# EAGLE library part 615008160721 (library WR-MJ)
WR-MJ Gigabit Ethernet Modular Jacks – THT Characteristics Shieldingless and Shielded with EMI-Spring option Vertical and Horizontal orientations Tray Packaging Properties PoE++ Compatible up to 100W (IEEE 802.3bt) UL and cULus-Certified UL94-V0 reflow-compatible insulator material Ethernet Category 5e to 6A Applications Telecommunications Computing Video Internet of Things Smart Buildings <https://www.we-online.com/components/media/o161613v209%20Family_WR-MJTH_615008160021.jpg> Details see: www.we-online.com/en/components/products/WR_MJ_MODULAR_JACKS_OVER <www.we-online.com/catalog/WR_MJ_MODULAR_JACKS_OVER/?utm_source=eagle_model&utm_medium=description_link&utm_campaign=eisos_eagle> Updated by Yingchun Shan 2020-01-03 2020(C) Würth Elektronik
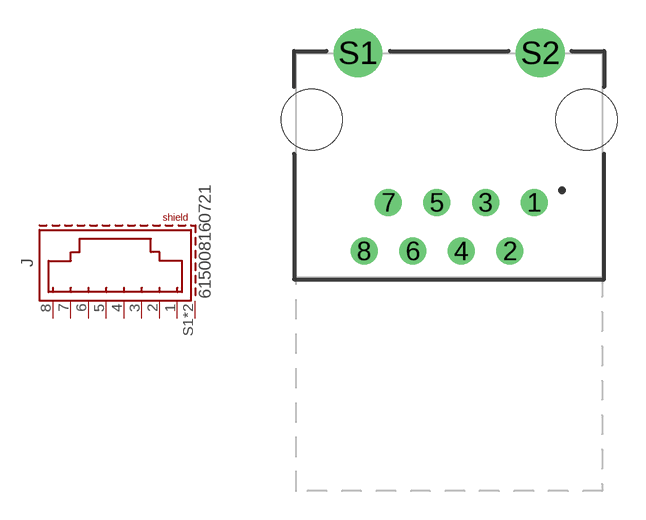
[diagram p41: symbol with the pads of 615008160721; footprint 615008160721]

Designator prefix J

## 615008160721 (APPLICATION-SYSTEM: CAT 6; DATASHEET-URL: https://www.we-online.com/redexpert/spec/615008160721?ae; EMI: No; LED: /; MOUNT: THT; PART-NUMBER: 615008160721; SIZE: Angled; VALUE: 615008160721; XPXC: 8P8C)  [615008160721]
1  1  pas
2  2  pas
3  3  pas
4  4  pas
5  5  pas
6  6  pas
7  7  pas
8  8  pas
S1  SHIELD  pas
S2  SHIELD  pas

## Footprint 615008160721 (pad centres in mm)
WR-MJ Modular Jack THT 47,5° Shielded 8P8C
drill 0.9: 1 4.445,-1.95; 2 3.175,-4.49; 3 1.905,-1.95; 4 0.635,-4.49; 5 -0.635,-1.95; 6 -1.905,-4.49; 7 -3.175,-1.95; 8 -4.445,-4.49
drill 1.7: S1 -4.765,5.87; S2 4.765,5.87
hole 3.2 at -7.175,2.39
hole 3.2 at 7.175,2.39